# Altium integrated library ERJ-PB6B1002V.IntLib: 1 symbol
Pins are listed as number, name and electrical type; pins without a type are passive.

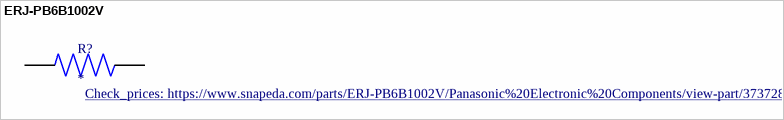
[diagram p0: symbol ERJ-PB6B1002V]

## ERJ-PB6B1002V
designator R?
10 kOhms Â±0.1% 0.25W, 1/4W Chip Resistor 0805 (2012 Metric) Automotive AEC-Q200, Pulse Withstanding Thick Film; MP: ERJ-PB6B1002V; MF: Panasonic Electronic; Value: *; Package: 2012 Panasonic Electronic Components; SnapEDA_Link: https://www.snapeda.com/parts/ERJ-PB6B1002V/Panasonic%20Electronic%20Components/view-part/3737287/?ref=snap; Digi-Key_Part_Number: P20708CT-ND; Check_prices: https://www.snapeda.com/parts/ERJ-PB6B1002V/Panasonic%20Electronic%20Components/view-part/3737287/?ref=eda
footprint RESC2012X70N
pins: 1, 2